# Altium schematic symbol library SCH - LOGIC - TI SN74LVC1G17DBVR.Schlib: 1 symbol
Pins are listed as number, name and electrical type; pins without a type are passive.

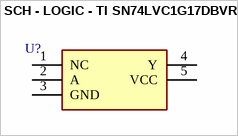
[diagram p0: symbol SCH - LOGIC - TI SN74LVC1G17DBVR]

## SCH - LOGIC - TI SN74LVC1G17DBVR
designator U?
footprint SOT95P280X145-5N
pins: 1 NC, 2 A, 3 GND, 4 Y, 5 VCC